# EAGLE library part STP16DPP05XTTR (library ST Microelctronics_By_element14_Batch_1)
LED sink driver
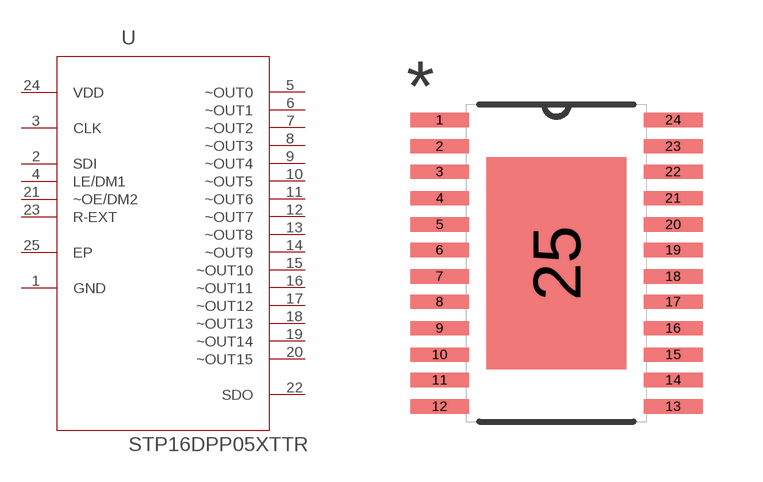
[diagram p377: symbol with the pads of SOP65P640X120-25N; footprint SOP65P640X120-25N]

Designator prefix U

## STP16DPP05XTTR (MPN: STP16DPP05XTTR; OC_FARNELL: -; OC_NEWARK: 55R7004; PACKAGE: TSSOP-24; SUPPLIER: STMICROELECTRONICS)  [SOP65P640X120-25N]
1  GND  pas
2  SDI  in
3  CLK  in
4  LE/DM1  in
5  ~OUT0  out
6  ~OUT1  out
7  ~OUT2  out
8  ~OUT3  out
9  ~OUT4  out
10  ~OUT5  out
11  ~OUT6  out
12  ~OUT7  out
13  ~OUT8  out
14  ~OUT9  out
15  ~OUT10  out
16  ~OUT11  out
17  ~OUT12  out
18  ~OUT13  out
19  ~OUT14  out
20  ~OUT15  out
21  ~OE/DM2  in
22  SDO  out
23  R-EXT  in
24  VDD  pwr
25  EP  pas

## Footprint SOP65P640X120-25N (pad centres in mm)
smd 1.473 x 0.356: 1 -2.921,3.581; 2 -2.921,2.921; 3 -2.921,2.286; 4 -2.921,1.626; 5 -2.921,0.965; 6 -2.921,0.33; 7 -2.921,-0.33; 8 -2.921,-0.965; 9 -2.921,-1.626; 10 -2.921,-2.286; 11 -2.921,-2.921; 12 -2.921,-3.581; 13 2.921,-3.581; 14 2.921,-2.921; 15 2.921,-2.286; 16 2.921,-1.626; 17 2.921,-0.965; 18 2.921,-0.33; 19 2.921,0.33; 20 2.921,0.965; 21 2.921,1.626; 22 2.921,2.286; 23 2.921,2.921; 24 2.921,3.581
smd 3.505 x 5.309: 25 0,0